# Altium schematic symbol library PCB_Project.SCHLIB: 15 symbols
Pins are listed as number, name and electrical type; pins without a type are passive.

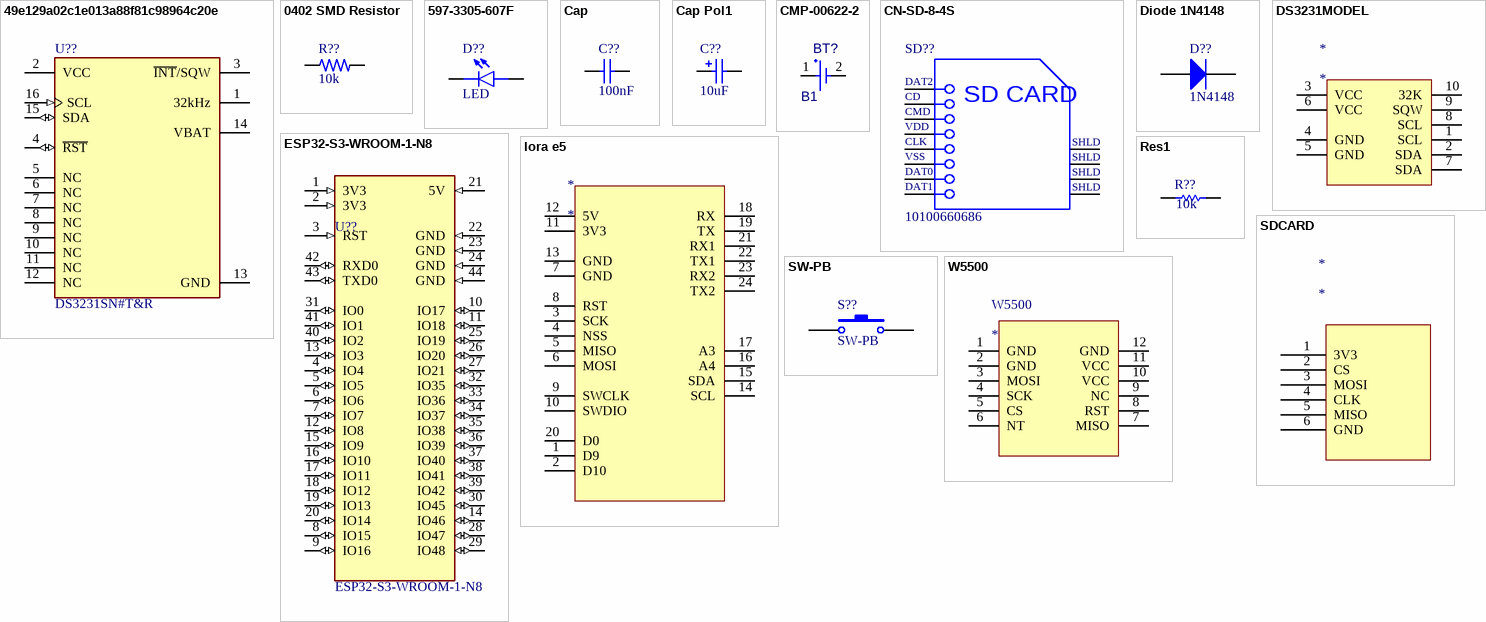
[diagram p0: symbols 49e129a02c1e013a88f81c98964c20e to W5500]

## 49e129a02c1e013a88f81c98964c20e
designator U??, comment DS3231SN#T&R
IC RTC CLK/CALENDAR I2C 16-SOIC; Operating Supply Voltage: 3.3V; Max Supply Voltage: 5.5V; Logic Function: Clock; Time Format: HH:MM:SS; Date Format: YY-MM-DD-dd; Min Supply Voltage: 2.3V; Min Operating Temperature: -40°C; Packaging: Tape and Reel; Radiation Hardening: No; Package Quantity: 1000; Case/Package: SOIC; Max Operating Temperature: 85°C; Lead Free: Lead Free; Interface: I2C; Contact Plating: Tin; Number of Pins: 16; Mount: Surface Mount
footprint FP-W16-H2-MFG
footprint FP-W16-H2-IPC_C
footprint FP-W16-H2-IPC_B
footprint FP-W16-H2-IPC_A
pins: 1 32kHz (oc), 2 VCC (power), 3 ~{INT}/SQW (oc), 4 ~{RST} (io), 5 NC, 6 NC, 7 NC, 8 NC, 9 NC, 10 NC, 11 NC, 12 NC, 13 GND (power), 14 VBAT (power), 15 SDA (io), 16 SCL (in)

## 0402 SMD Resistor
designator R??, comment 10k
Res Thick Film 0402 10K Ohm 5% 0.125W(1/8W) ±200ppm/C Pad SMD T/R; Manufacturer: Yageo; Manufacturer Part Number: RC0402JR-7W10KL; Value: 10kR; ComponentLink1Description: Link; ComponentLink1URL: *; Supplier: Future Electronics; Supplier Part Number: 5143940; RoHS: Yes; Category: Chip SMD Resistors; Stock: 480000; Pricing: 10000=0.0009, 50000=0.0009, 200000=0.0009, 500000=0.0009, 1250000=0.0009 (USD); Case/Package: 343Case; Packaging: 10Packaging; RoHS Compliant: Yes; ComponentLink2URL: https://datasheet.octopart.com/RC0402JR-7W10KL-Yageo-datasheet-164759695.pdf?src-supplier=Future+Electronics; ComponentLink2Description: https://datasheet.octopart.com/RC0402JR-7W10KL-Yageo-datasheet-164759695.pdf?src-supplier=Future+Electronics
footprint 0402 RES
pins: 1, 2

## 597-3305-607F
designator D??, comment LED
LED Uni-Color Red 2-Pin Chip 0805 T/R; MP: 597-3305-607F; Availability: Unavailable; Value: *; Price: None; Package: None
footprint LEDC2012X70N
pins: A, C

## Cap
designator C??, comment value 100nF  (hidden comment: 0805-50V-100nF±1%)
Capacitor; Published: 8-Jun-2000; LatestRevisionDate: 17-Jul-2002; LatestRevisionNote: Re-released for DXP Platform.; PackageReference: RAD-0.3; Publisher: Altium Limited; PackageDescription: Radial Cap, Thru-Hole; 2 Leads; 0.3 in Pin Spacing
footprint CC0805 (Footprint not found)
simulation model CAP (Capacitor)
signal-integrity model Cap
pins: 1, 2

## Cap Pol1
designator C??, comment value 10uF  (hidden comment: SMD-25V-10uF)
Polarized Capacitor (Radial); Published: 8-Jun-2000; LatestRevisionDate: 17-Jul-2002; LatestRevisionNote: Re-released for DXP Platform.; PackageReference: RB7.6-15; Publisher: Altium Limited; PackageDescription: Polarized Capacitor (Radial); 2 Leads
footprint RB7.6-15 (Polarized Capacitor (Radial); 2 Leads)
simulation model CAP (Capacitor)
signal-integrity model Cap Pol
pins: 1, 2
1 alternate drawing of the same symbol

## CMP-00622-2
designator BT?, comment B1
MS Lihium Rechargeable Battery, 3 V, -20 to 60 degC, Tray; RoHS Compliant: NotApplicable; Mounting Technology: WithLeads; Pins: 2
footprint SEIK-MS621FE-FL11E-2_V (SMD, 2-Leads, Diameter 6.8mm)
pins: 1 +, 2 -

## CN-SD-8-4S
designator SD??, comment 10100660686
Micro SD Card Reader, -25 to 85 degC, 9-Pin SMD, RoHS, Tape and Reel; Manufacturer: Amphenol; Pitch: 1.1mm; Package Version: Rev. G, 10/2012; No. of Positions: 9; Package Description: 9-Pin Micro Secure Digital Card, Pitch 1.1 mm; Datasheet URL: https://www.amphenolcanada.com/ProductSearch/drawings/AC/10100660686.pdf; Orientation: RightAngle; Mounting Technology: SurfaceMount; Manufacturer URL: http://www.amphenol.com/; Package URL: https://www.amphenolcanada.com/ProductSearch/drawings/AC/10100660686.pdf; Temperature Min: -25degC; Package Reference: 10100660686; Temperature Max: 85degC; PartNumber: 10100660; Packing: TapeandReel; RoHS: TRUE; Datasheet Version: Rev. G, 10/2012
footprint AMPH-10100660686_V (Micro SD Card, 9-Leads, Pitch 1.1mm)
pins: 1 VDD, 2 CD/DAT3, 3 CMD, 4 CLK, 5 DAT0, 6 VSS, 7 DAT2, 8 DAT1, 9 SHLD, 10 SHLD, 11 SHLD, 12 SHLD
text: CD; SD CARD

## Diode 1N4148
designator D??, comment 1N4148
High Conductance Fast Diode; Published: 8-Jun-2000; LatestRevisionDate: 17-Jul-2002; LatestRevisionNote: Re-released for DXP Platform.; DatasheetVersion: 1997; PackageReference: DO-35; Publisher: Altium Limited; PackageDescription: Diode, Axial; Body 3.8 x 1.9 mm (LxDia. max), Lead Dia. 0.53 mm (max); Code_JEDEC: DO-204-AH; ComponentLink1Description: Manufacturer Link; ComponentLink1URL: http://www.fairchildsemi.com/; ComponentLink2Description: Datasheet; ComponentLink2URL: http://www.fairchildsemi.com/ds/1N%2F1N4148.pdf
footprint DO-35 (Diode, Axial; Body 3.8 x 1.9 mm (LxDia. max), Lead Dia. 0.53 mm (max))
simulation model 1N4148 (DIODE)
signal-integrity model 1N4148
pins: 1 A, 2 K

## DS3231MODEL
designator *
pins: 1 SCL, 2 SDA, 3 VCC, 4 GND, 5 GND, 6 VCC, 7 SDA, 8 SCL, 9 SQW, 10 32K

## ESP32-S3-WROOM-1-N8
designator U??
<a href="https://pricing.snapeda.com/parts/ESP32S3WROOM1N8R8/Espressif%20Systems/view-part?ref=eda">Check availability</a>  <a href="https://pricing.snapeda.com/parts/ESP32-S3-WROOM-1-N8R8/Espressif%20Systems/view-part?ref=eda">Check availability</a>; MF: {'manufacturer': u'Espressif Systems'}; Package: None; Price: None; Value: *; MP: ESP32-S3-WROOM-1-N8; Availability: Unavailable
footprint XCVR_ESP32-S3-WROOM-1-N8; pin to pad 1>1+40+41_1+41_2+41_3+41_4+41_5+41_6+41_7+41_8+41_9+41_10+41_11+41_12+41_13+41_14+41_15+41_16+41_17+41_18+41_19+41_20+41_21
pins: 1 3V3 (in), 2 3V3 (in), 3 RST (in), 4 IO4 (io), 5 IO5 (io), 6 IO6 (io), 7 IO7 (io), 8 IO15 (io), 9 IO16 (io), 10 IO17 (io), 11 IO18 (io), 12 IO8 (io), 13 IO3 (io), 14 IO46 (io), 15 IO9 (io), 16 IO10 (io), 17 IO11 (io), 18 IO12 (io), 19 IO13 (io), 20 IO14 (io), 21 5V (in), 22 GND (in), 23 GND (in), 24 GND (in), 25 IO19 (io), 26 IO20 (io), 27 IO21 (io), 28 IO47 (io), 29 IO48 (io), 30 IO45 (io), 31 IO0 (io), 32 IO35 (io), 33 IO36 (io), 34 IO37 (io), 35 IO38 (io), 36 IO39 (io), 37 IO40 (io), 38 IO41 (io), 39 IO42 (io), 40 IO2 (io), 41 IO1 (io), 42 RXD0 (io), 43 TXD0 (io), 44 GND (in)

## lora e5
designator *
pins: 1 D9, 2 D10, 3 SCK, 4 NSS, 5 MISO, 6 MOSI, 7 GND, 8 RST, 9 SWCLK, 10 SWDIO, 11 3V3, 12 5V, 13 GND, 14 SCL, 15 SDA, 16 A4, 17 A3, 18 RX, 19 TX, 20 D0, 21 RX1, 22 TX1, 23 RX2, 24 TX2

## Res1
designator R??, comment value 10k  (hidden comment: 0805-10kΩ±1%)
Resistor; Published: 8-Jun-2000; LatestRevisionDate: 17-Jul-2002; LatestRevisionNote: Re-released for DXP Platform.; PackageReference: AXIAL-0.3; Publisher: Altium Limited; PackageDescription: Axial Device, Thru-Hole; 2 Leads; 0.3 in Pin Spacing
footprint AXIAL-0.3 (Axial Device, Thru-Hole; 2 Leads; 0.3 in Pin Spacing)
simulation model RESISTOR (Resistor)
signal-integrity model Res
pins: 1, 2

## SDCARD
designator *
pins: 1 3V3, 2 CS, 3 MOSI, 4 CLK, 5 MISO, 6 GND

## SW-PB
designator S??
Switch; Published: 24-Mar-1999; LatestRevisionDate: 17-Jul-2002; LatestRevisionNote: Re-released for DXP Platform.; PackageReference: SPST-2; Publisher: Altium Limited; PackageDescription: Switch; 2 Leads
footprint SPST-2 (Switch; 2 Leads)
pins: 1, 2

## W5500
designator W5500
pins: 1 GND, 2 GND, 3 MOSI, 4 SCK, 5 CS, 6 NT, 7 MISO, 8 RST, 9 NC, 10 VCC, 11 VCC, 12 GND